# Altium integrated library ON Semi Signal Management Display Controllers.IntLib: 5 symbols
Pins are listed as number, name and electrical type; pins without a type are passive.

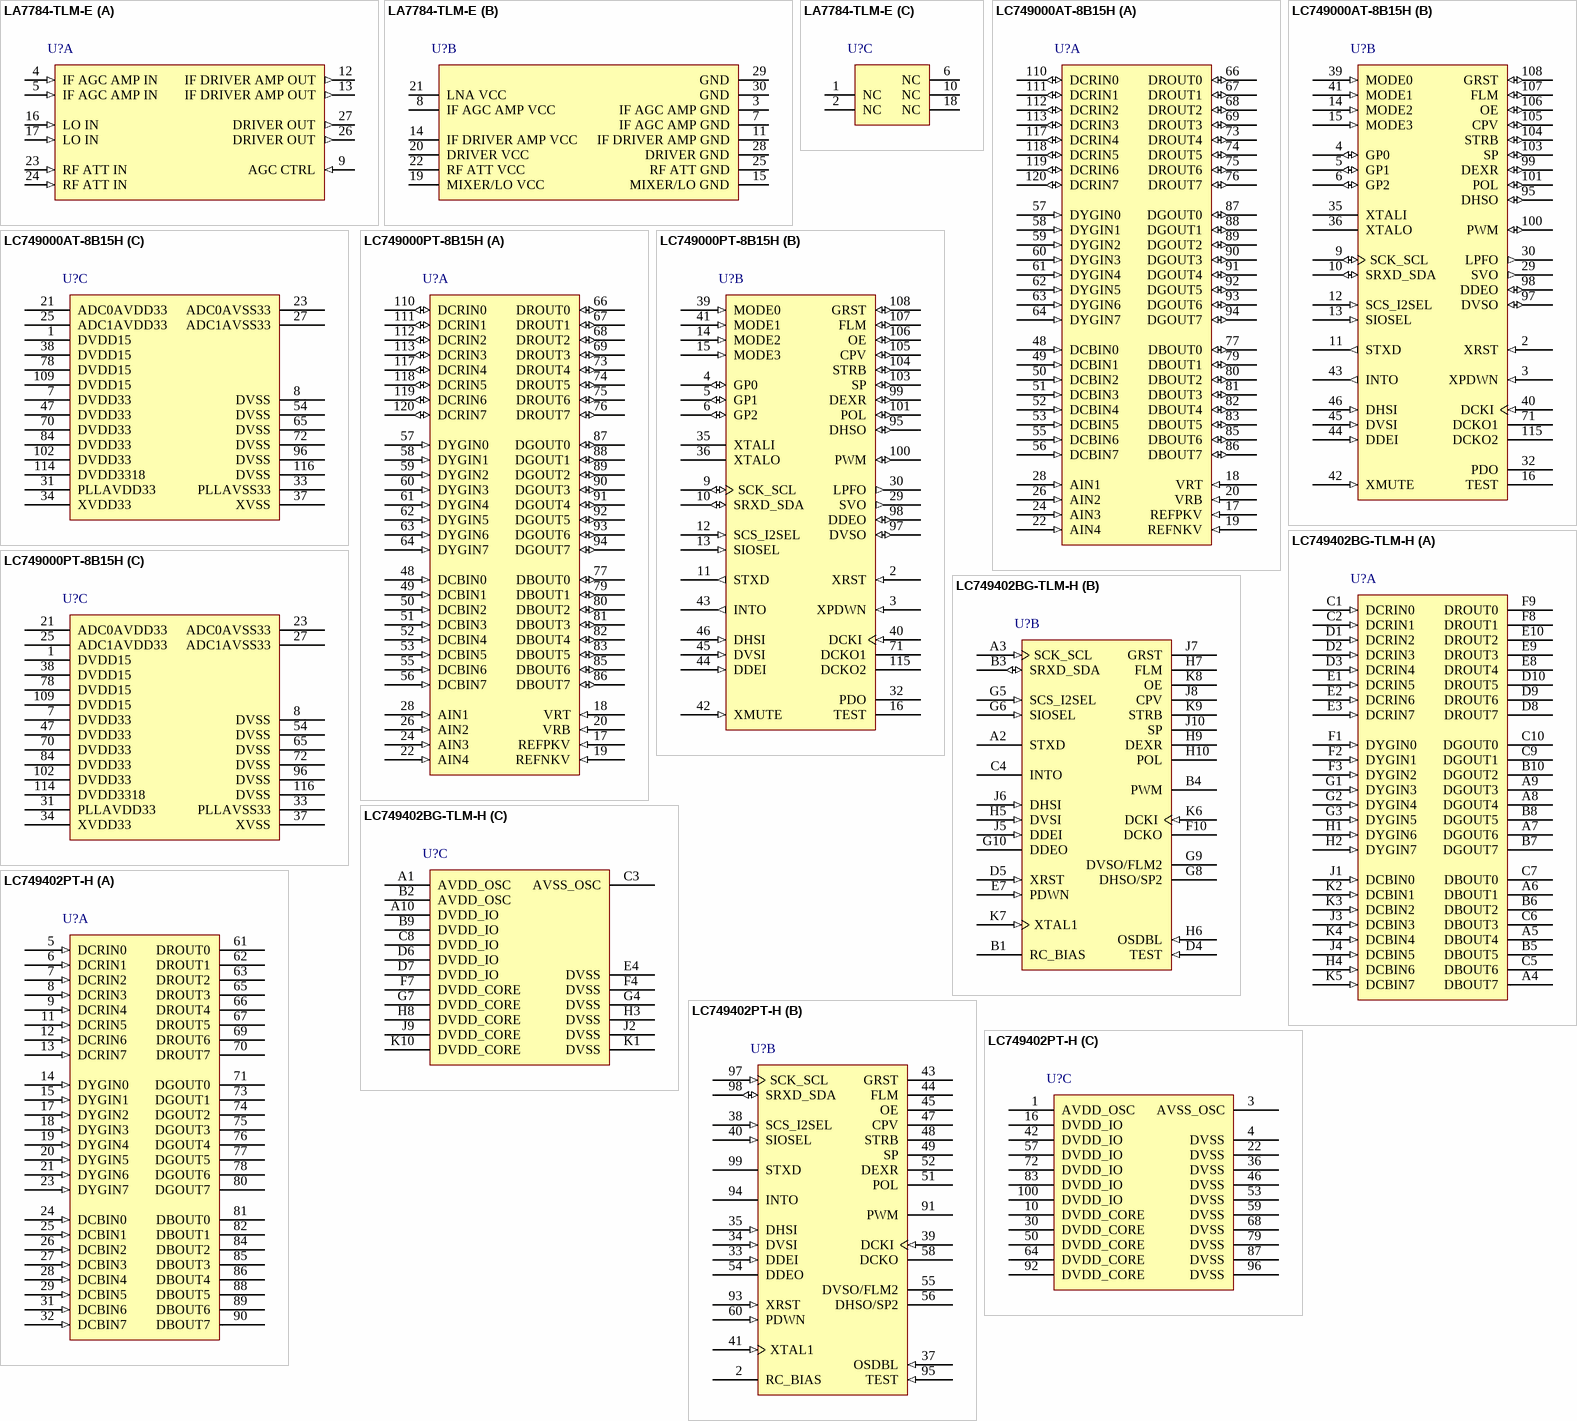
[diagram p0: symbols LA7784-TLM-E to LC749402PT-H]

## LA7784-TLM-E
designator U?
Downconverter IC for Digital CATV, 4.5 to 5.5 V, -20 to 70 degC, 28-Pin HSOP, Pb-Free, Tape and Reel; Manufacturer: On Semiconductor; PartNumber: LA7784-TLM-E; Supply Voltage Max (V): 5.5; Supply Voltage Min (V): 4.5; DatasheetVersion: Rev. 0; PackageReference: HSOP-28; PackageDescription: 28-Pin Small Outline Package, Body 15 x 5.6 mm, Pitch 0.8 mm; Supplier 1: Mouser; Supplier Part Number 1: 863-LA7784-TLM-E; Packing: Tape and Reel; RoHS: TRUE; Mounting Technology: Surface Mount; ComponentLink1Description: Manufacturer URL; ComponentLink1URL: http://www.onsemi.com/; ComponentLink2Description: Datasheet; ComponentLink2URL: http://www.onsemi.com/pub/Collateral/ENN8386-D.PDF; ComponentLink3Description: Package Specification; ComponentLink3URL: http://www.onsemi.com/pub/Collateral/ENN8386-D.PDF
footprint ONSC-HSOP-28_N (SOP, 28-Leads, Body 15x5.6mm, Pitch 0.8mm, IPC Medium Density)
footprint ONSC-HSOP-28_L (SOP, 28-Leads, Body 15x5.6mm, Pitch 0.8mm, IPC High Density)
footprint ONSC-HSOP-28_M (SOP, 28-Leads, Body 15x5.6mm, Pitch 0.8mm, IPC Low Density)
part A pins: 4 IF AGC AMP IN (in) "AGC Amp Input", 5 IF AGC AMP IN (in) "AGC Amp Input", 9 AGC CTRL (in) "AGC Control", 12 IF DRIVER AMP OUT (out) "Post Amp Output", 13 IF DRIVER AMP OUT (out) "Post Amp Output", 16 LO IN (in) "LO Input", 17 LO IN (in) "LO Input", 23 RF ATT IN (in) "LNA Input", 24 RF ATT IN (in) "LNA Input", 26 DRIVER OUT (out) "Driver Output", 27 DRIVER OUT (out) "Driver Output"
part B pins: 3 IF AGC AMP GND (power) "AGC Amp GND", 7 IF AGC AMP GND (power) "AGC Amp GND", 8 IF AGC AMP VCC (power) "AGC Amp VCC", 11 IF DRIVER AMP GND (power) "Post Amp GND", 14 IF DRIVER AMP VCC (power) "Post Amp VCC", 15 MIXER/LO GND (power) "Mixer/LO GND", 19 MIXER/LO VCC (power) "Mixer/LO VCC", 20 DRIVER VCC (power) "Driver VCC", 21 LNA VCC (power), 22 RF ATT VCC (power) "LNA VCC", 25 RF ATT GND (power) "LNA GND", 28 DRIVER GND (power) "Driver GND", 29 GND (power), 30 GND (power)
part C pins: 1 NC "No connection", 2 NC "No connection", 6 NC "No connection", 10 NC "No connection", 18 NC "No connection"

## LC749000AT-8B15H
designator U?
Silicon Gate LCD Processor LSI for Small Size Display, -40 to 85 degC, 120-Pin TQFP, Pb-Free, Tray; Manufacturer: On Semiconductor; PartNumber: LC749000AT-8B15H; Character Format: 16 x 20; Control Input: I2C, SPI; Number of Characters Supported (Internal): 512; DatasheetVersion: Rev. 0; PackageVersion: Rev. A, 11/2013; PackageReference: TQFP-120-932AZ; PackageDescription: 120-Pin Quad Flat Package, Body 14 x 14 mm, Pitch 0.4 mm; Supplier 1: Newark; Supplier Part Number 1: 56W6698; Supplier 2: Mouser; Supplier Part Number 2: 863-LC749000AT-8B15H; Packing: Tray; RoHS: TRUE; Mounting Technology: Surface Mount; ComponentLink1Description: Manufacturer URL; ComponentLink1URL: http://www.onsemi.com/; ComponentLink2Description: Datasheet; ComponentLink2URL: http://www.onsemi.com/pub_link/Collateral/ENA2000-D.PDF; ComponentLink3Description: Package Specification; ComponentLink3URL: http://www.onsemi.com/pub_link/Collateral/932AZ.PDF
footprint ONSC-TQFP-120-932AZ_V (QFP, 120-Leads, Body 14.1x14.1mm, Pitch 0.4mm)
part A pins: 17 REFPKV (in) "Top reference level Buffer-AMP input for ADC", 18 VRT (in) "Top reference level for ADC", 19 REFNKV (in) "Bottom reference level Buffer-AMP input for ADC", 20 VRB (in) "Bottom reference level for ADC", 22 AIN4 (in) "CVBS input 4", 24 AIN3 (in) "CVBS input 3", 26 AIN2 (in) "CVBS input 2", 28 AIN1 (in) "CVBS input 1", 48 DCBIN0 (in) "Digital video input/OSD input (pull down if not used)", 49 DCBIN1 (in) "Digital video input/OSD input (pull down if not used)", 50 DCBIN2 (in) "Digital video input/OSD input (pull down if not used)", 51 DCBIN3 (in) "Digital video input/OSD input (pull down if not used)", 52 DCBIN4 (in) "Digital video input/OSD input (pull down if not used)", 53 DCBIN5 (in) "Digital video input/OSD input (pull down if not used)", 55 DCBIN6 (in) "Digital video input/OSD input (pull down if not used)", 56 DCBIN7 (in) "Digital video input/OSD input (pull down if not used)", 57 DYGIN0 (in) "Digital video input/OSD input (pull down if not used)", 58 DYGIN1 (in) "Digital video input/OSD input (pull down if not used)", 59 DYGIN2 (in) "Digital video input/OSD input (pull down if not used)", 60 DYGIN3 (in) "Digital video input/OSD input (pull down if not used)", 61 DYGIN4 (in) "Digital video input/OSD input (pull down if not used)", 62 DYGIN5 (in) "Digital video input/OSD input (pull down if not used))", 63 DYGIN6 (in) "Digital video input/OSD input (pull down if not used)", 64 DYGIN7 (in) "Digital video input/OSD input (pull down if not used)", 66 DROUT0 (io) "Panel R output (LSB) (input port in test mode)", 67 DROUT1 (io) "Panel R output (input port in test mode)", 68 DROUT2 (io) "Panel R output (input port in test mode)", 69 DROUT3 (io) "Panel R output (input port in test mode)", 73 DROUT4 (io) "Panel R output (input port in test mode)", 74 DROUT5 (io) "Panel R output (input port in test mode)", 75 DROUT6 (io) "Panel R output (input port in test mode)", 76 DROUT7 (io) "Panel R output (MSB) (input port in test mode)", 77 DBOUT0 (io) "Panel B output (LSB) (input port in test mode)", 79 DBOUT1 (io) "Panel B output (input port in test mode)", 80 DBOUT2 (io) "Panel B output (input port in test mode)", 81 DBOUT3 (io) "Panel B output (input port in test mode)", 82 DBOUT4 (io) "Panel B output (input port in test mode)", 83 DBOUT5 (io) "Panel B output (input port in test mode)", 85 DBOUT6 (io) "Panel B output (input port in test mode)", 86 DBOUT7 (io) "Panel B output (MSB) (input port in test mode)", 87 DGOUT0 (io) "Panel G output (LSB) (input port in test mode)", 88 DGOUT1 (io) "Panel G output (input port in test mode)", 89 DGOUT2 (io) "Panel G output (input port in test mode)", 90 DGOUT3 (io) "Panel G output (input port in test mode)", 91 DGOUT4 (io) "Panel G output (input port in test mode)", 92 DGOUT5 (io) "Panel G output (input port in test mode)", 93 DGOUT6 (io) "Panel G output (input port in test mode)", 94 DGOUT7 (io) "Panel G output (MSB) (input port in test mode)", 110 DCRIN0 (io) "Input: Digital video input/OSD input (pull down if not used), Output: Video decoder output 2[0] (BT.656)", 111 DCRIN1 (io) "Input: Digital video input/OSD input (pull down if not used), Output: Video decoder output 2[1] (BT.656)", 112 DCRIN2 (io) "Input: Digital video input/OSD input (pull down if not used), Output: Video decoder output 2[2] (BT.656)", 113 DCRIN3 (io) "Input: Digital video input/OSD input (pull down if not used), Output: Video decoder output 2[3] (BT.656)", 117 DCRIN4 (io) "Input: Digital video input/OSD input (pull down if not used), Output: Video decoder output 2[4] (BT.656)", 118 DCRIN5 (io) "Input: Digital video input/OSD input (pull down if not used), Output: Video decoder output 2[5] (BT.656)", 119 DCRIN6 (io) "Input: Digital video input/OSD input (pull down if not used), Output: Video decoder output 2[6] (BT.656)", 120 DCRIN7 (io) "Input: Digital video input/OSD input (pull down if not used), Output: Video decoder output 2[7] (BT.656)"
part B pins: 2 XRST (in) "Reset pin (active at a low voltage level)", 3 XPDWN (in) "Fixed at a high voltage level", 4 GP0 (io) "Input: Digital input/OSD enable (pull down if not used), Output: Global port/Video decoder Vsync", 5 GP1 (io) "Input: Digital input/OSD halftone (pull down if not used), Output: Global Port/Video DecoderHsync", 6 GP2 (io) "Global port output", 9 SCK_SCL (io) "I2C: I2C Clock inout, SPI: Clock input", 10 SRXD_SDA (io) "I2C: data inout, SPI: data input", 11 STXD (out) "SPI: data output", 12 SCS_I2SEL (in) "I2C: Select I2C slave address, SPI: Chip select", 13 SIOSEL (in) "Select CPU I/F, ”L”: I2C, ”H”: SPI", 14 MODE2 (in) "Operation mode control", 15 MODE3 (in) "Operation mode control", 16 TEST "For production test (Fixed at a low voltage level)", 29 SVO (out) "AFE output", 30 LPFO (out) "External AGC control level", 32 PDO "Test port for PLL (Open)", 35 XTALI "27MHz X’tal input", 36 XTALO "27MHz X’tal output", 39 MODE0 (in) "Operation mode control", 40 DCKI (in) "Digital video clock", 41 MODE1 (in) "Operation mode control", 42 XMUTE (in) "Mute control (active at a low voltage level)", 43 INTO (out) "Interrupt output", 44 DDEI (in) "Digital video enable/OSD enable", 45 DVSI (in) "Digital video Vsync/OSD half tone", 46 DHSI (in) "Digital video Hsync", 71 DCKO1 (hiz) "Panel clock output", 95 DHSO (io) "Panel Hsync/Start pulse for source driver/Video decoder Vsync output (input port in test mode)", 97 DVSO (io) "Panel Vsync/Start pulse for gate driver/Video decoder Vsync output (input port in test mode)", 98 DDEO (io) "Panel enable output (input port in test mode)", 99 DEXR (io) "Invert control signal for DTR/Video decorer output 1[7](BT.656) (input port in test mode)", 100 PWM (io) "Pulse width modulation (input port in test mode)", 101 POL (io) "Polarity control for source driver/Video decoder output 1[6] (BT.656) (input port in test mode)", 103 SP (io) "Start pulse for source driver/Video decoder output 1[5] (BT.656) (input port in test mode)", 104 STRB (io) "Data stroboscope for source driver/Video decoder output 1[4] (BT.656) (input port in test mode)", 105 CPV (io) "Clock for gate driver/Video decoder output 1[3] (BT.656) (input port in test mode)", 106 OE (io) "Output enable for gate driver/Video decoder output 1[2] (BT.656) (input port in test mode)", 107 FLM (io) "Start pulse for gate driver/Video decoder output 1[1] (BT.656) (input port in test mode)", 108 GRST (io) "Reset for gate driver/Video decoder output1[0] (BT.656) (input port in test mode)", 115 DCKO2 (hiz) "Video decoder clock output"
part C pins: 1 DVDD15 (power) "Power supply for core (1.5V)", 7 DVDD33 (power) "Power supply for IO (3.3V)", 8 DVSS (power) "GND for digital", 21 ADC0AVDD33 (power) "Power supply for ADC (3.3V)", 23 ADC0AVSS33 (power) "GND for ADC", 25 ADC1AVDD33 (power) "Power supply for ADC (3.3V)", 27 ADC1AVSS33 (power) "GND for ADC", 31 PLLAVDD33 (power) "Power supply for PLL (3.3V)", 33 PLLAVSS33 (power) "GND for PLL", 34 XVDD33 (power) "Power supply for 27MHz X’tal (3.3V)", 37 XVSS (power) "GND for 27MHz X’tal", 38 DVDD15 (power) "Power supply for core (1.5V)", 47 DVDD33 (power) "Power supply for IO (3.3V)", 54 DVSS (power) "GND for digital", 65 DVSS (power) "GND for digital", 70 DVDD33 (power) "Power supply for IO (3.3V)", 72 DVSS (power) "GND for digital", 78 DVDD15 (power) "Power supply for core (1.5V)", 84 DVDD33 (power) "Power supply for IO (3.3V)", 96 DVSS (power) "GND for digital", 102 DVDD33 (power) "Power supply for IO (3.3V)", 109 DVDD15 (power) "Power supply for core (1.5V)", 114 DVDD3318 (power) "Power supply for IO (3.3V/1.8V)", 116 DVSS (power) "GND for digital"

## LC749000PT-8B15H
designator U?
Silicon Gate LCD Processor LSI for Small Size Display, -40 to 85 degC, 120-Pin TQFP, Pb-Free, Tray; Manufacturer: On Semiconductor; PartNumber: LC749000PT-8B15H; Character Format: 16 x 20; Control Input: I2C, SPI; Number of Characters Supported (Internal): 512; DatasheetVersion: Rev. 0; PackageVersion: Rev. A, 11/2013; PackageReference: TQFP-120-932AZ; PackageDescription: 120-Pin Quad Flat Package, Body 14 x 14 mm, Pitch 0.4 mm; Supplier 1: Mouser; Supplier Part Number 1: 863-LC749000PT-8B15H; Packing: Tray; RoHS: TRUE; Mounting Technology: Surface Mount; ComponentLink1Description: Manufacturer URL; ComponentLink1URL: http://www.onsemi.com/; ComponentLink2Description: Datasheet; ComponentLink2URL: http://www.onsemi.com/pub_link/Collateral/ENA2000-D.PDF; ComponentLink3Description: Package Specification; ComponentLink3URL: http://www.onsemi.com/pub_link/Collateral/932AZ.PDF
footprint ONSC-TQFP-120-932AZ_V (QFP, 120-Leads, Body 14.1x14.1mm, Pitch 0.4mm)
part A pins: 17 REFPKV (in) "Top reference level Buffer-AMP input for ADC", 18 VRT (in) "Top reference level for ADC", 19 REFNKV (in) "Bottom reference level Buffer-AMP input for ADC", 20 VRB (in) "Bottom reference level for ADC", 22 AIN4 (in) "CVBS input 4", 24 AIN3 (in) "CVBS input 3", 26 AIN2 (in) "CVBS input 2", 28 AIN1 (in) "CVBS input 1", 48 DCBIN0 (in) "Digital video input/OSD input (pull down if not used)", 49 DCBIN1 (in) "Digital video input/OSD input (pull down if not used)", 50 DCBIN2 (in) "Digital video input/OSD input (pull down if not used)", 51 DCBIN3 (in) "Digital video input/OSD input (pull down if not used)", 52 DCBIN4 (in) "Digital video input/OSD input (pull down if not used)", 53 DCBIN5 (in) "Digital video input/OSD input (pull down if not used)", 55 DCBIN6 (in) "Digital video input/OSD input (pull down if not used)", 56 DCBIN7 (in) "Digital video input/OSD input (pull down if not used)", 57 DYGIN0 (in) "Digital video input/OSD input (pull down if not used)", 58 DYGIN1 (in) "Digital video input/OSD input (pull down if not used)", 59 DYGIN2 (in) "Digital video input/OSD input (pull down if not used)", 60 DYGIN3 (in) "Digital video input/OSD input (pull down if not used)", 61 DYGIN4 (in) "Digital video input/OSD input (pull down if not used)", 62 DYGIN5 (in) "Digital video input/OSD input (pull down if not used))", 63 DYGIN6 (in) "Digital video input/OSD input (pull down if not used)", 64 DYGIN7 (in) "Digital video input/OSD input (pull down if not used)", 66 DROUT0 (io) "Panel R output (LSB) (input port in test mode)", 67 DROUT1 (io) "Panel R output (input port in test mode)", 68 DROUT2 (io) "Panel R output (input port in test mode)", 69 DROUT3 (io) "Panel R output (input port in test mode)", 73 DROUT4 (io) "Panel R output (input port in test mode)", 74 DROUT5 (io) "Panel R output (input port in test mode)", 75 DROUT6 (io) "Panel R output (input port in test mode)", 76 DROUT7 (io) "Panel R output (MSB) (input port in test mode)", 77 DBOUT0 (io) "Panel B output (LSB) (input port in test mode)", 79 DBOUT1 (io) "Panel B output (input port in test mode)", 80 DBOUT2 (io) "Panel B output (input port in test mode)", 81 DBOUT3 (io) "Panel B output (input port in test mode)", 82 DBOUT4 (io) "Panel B output (input port in test mode)", 83 DBOUT5 (io) "Panel B output (input port in test mode)", 85 DBOUT6 (io) "Panel B output (input port in test mode)", 86 DBOUT7 (io) "Panel B output (MSB) (input port in test mode)", 87 DGOUT0 (io) "Panel G output (LSB) (input port in test mode)", 88 DGOUT1 (io) "Panel G output (input port in test mode)", 89 DGOUT2 (io) "Panel G output (input port in test mode)", 90 DGOUT3 (io) "Panel G output (input port in test mode)", 91 DGOUT4 (io) "Panel G output (input port in test mode)", 92 DGOUT5 (io) "Panel G output (input port in test mode)", 93 DGOUT6 (io) "Panel G output (input port in test mode)", 94 DGOUT7 (io) "Panel G output (MSB) (input port in test mode)", 110 DCRIN0 (io) "Input: Digital video input/OSD input (pull down if not used), Output: Video decoder output 2[0] (BT.656)", 111 DCRIN1 (io) "Input: Digital video input/OSD input (pull down if not used), Output: Video decoder output 2[1] (BT.656)", 112 DCRIN2 (io) "Input: Digital video input/OSD input (pull down if not used), Output: Video decoder output 2[2] (BT.656)", 113 DCRIN3 (io) "Input: Digital video input/OSD input (pull down if not used), Output: Video decoder output 2[3] (BT.656)", 117 DCRIN4 (io) "Input: Digital video input/OSD input (pull down if not used), Output: Video decoder output 2[4] (BT.656)", 118 DCRIN5 (io) "Input: Digital video input/OSD input (pull down if not used), Output: Video decoder output 2[5] (BT.656)", 119 DCRIN6 (io) "Input: Digital video input/OSD input (pull down if not used), Output: Video decoder output 2[6] (BT.656)", 120 DCRIN7 (io) "Input: Digital video input/OSD input (pull down if not used), Output: Video decoder output 2[7] (BT.656)"
part B pins: 2 XRST (in) "Reset pin (active at a low voltage level)", 3 XPDWN (in) "Fixed at a high voltage level", 4 GP0 (io) "Input: Digital input/OSD enable (pull down if not used), Output: Global port/Video decoder Vsync", 5 GP1 (io) "Input: Digital input/OSD halftone (pull down if not used), Output: Global Port/Video DecoderHsync", 6 GP2 (io) "Global port output", 9 SCK_SCL (io) "I2C: I2C Clock inout, SPI: Clock input", 10 SRXD_SDA (io) "I2C: data inout, SPI: data input", 11 STXD (out) "SPI: data output", 12 SCS_I2SEL (in) "I2C: Select I2C slave address, SPI: Chip select", 13 SIOSEL (in) "Select CPU I/F, ”L”: I2C, ”H”: SPI", 14 MODE2 (in) "Operation mode control", 15 MODE3 (in) "Operation mode control", 16 TEST "For production test (Fixed at a low voltage level)", 29 SVO (out) "AFE output", 30 LPFO (out) "External AGC control level", 32 PDO "Test port for PLL (Open)", 35 XTALI "27MHz X’tal input", 36 XTALO "27MHz X’tal output", 39 MODE0 (in) "Operation mode control", 40 DCKI (in) "Digital video clock", 41 MODE1 (in) "Operation mode control", 42 XMUTE (in) "Mute control (active at a low voltage level)", 43 INTO (out) "Interrupt output", 44 DDEI (in) "Digital video enable/OSD enable", 45 DVSI (in) "Digital video Vsync/OSD half tone", 46 DHSI (in) "Digital video Hsync", 71 DCKO1 (hiz) "Panel clock output", 95 DHSO (io) "Panel Hsync/Start pulse for source driver/Video decoder Vsync output (input port in test mode)", 97 DVSO (io) "Panel Vsync/Start pulse for gate driver/Video decoder Vsync output (input port in test mode)", 98 DDEO (io) "Panel enable output (input port in test mode)", 99 DEXR (io) "Invert control signal for DTR/Video decorer output 1[7](BT.656) (input port in test mode)", 100 PWM (io) "Pulse width modulation (input port in test mode)", 101 POL (io) "Polarity control for source driver/Video decoder output 1[6] (BT.656) (input port in test mode)", 103 SP (io) "Start pulse for source driver/Video decoder output 1[5] (BT.656) (input port in test mode)", 104 STRB (io) "Data stroboscope for source driver/Video decoder output 1[4] (BT.656) (input port in test mode)", 105 CPV (io) "Clock for gate driver/Video decoder output 1[3] (BT.656) (input port in test mode)", 106 OE (io) "Output enable for gate driver/Video decoder output 1[2] (BT.656) (input port in test mode)", 107 FLM (io) "Start pulse for gate driver/Video decoder output 1[1] (BT.656) (input port in test mode)", 108 GRST (io) "Reset for gate driver/Video decoder output1[0] (BT.656) (input port in test mode)", 115 DCKO2 (hiz) "Video decoder clock output"
part C pins: 1 DVDD15 (power) "Power supply for core (1.5V)", 7 DVDD33 (power) "Power supply for IO (3.3V)", 8 DVSS (power) "GND for digital", 21 ADC0AVDD33 (power) "Power supply for ADC (3.3V)", 23 ADC0AVSS33 (power) "GND for ADC", 25 ADC1AVDD33 (power) "Power supply for ADC (3.3V)", 27 ADC1AVSS33 (power) "GND for ADC", 31 PLLAVDD33 (power) "Power supply for PLL (3.3V)", 33 PLLAVSS33 (power) "GND for PLL", 34 XVDD33 (power) "Power supply for 27MHz X’tal (3.3V)", 37 XVSS (power) "GND for 27MHz X’tal", 38 DVDD15 (power) "Power supply for core (1.5V)", 47 DVDD33 (power) "Power supply for IO (3.3V)", 54 DVSS (power) "GND for digital", 65 DVSS (power) "GND for digital", 70 DVDD33 (power) "Power supply for IO (3.3V)", 72 DVSS (power) "GND for digital", 78 DVDD15 (power) "Power supply for core (1.5V)", 84 DVDD33 (power) "Power supply for IO (3.3V)", 96 DVSS (power) "GND for digital", 102 DVDD33 (power) "Power supply for IO (3.3V)", 109 DVDD15 (power) "Power supply for core (1.5V)", 114 DVDD3318 (power) "Power supply for IO (3.3V/1.8V)", 116 DVSS (power) "GND for digital"

## LC749402BG-TLM-H
designator U?
Silicon Gate LCD Picture Quality Improvement IC, -40 to 85 degC, 96-Pin LFBGA, Pb-Free, Tape and Reel; Manufacturer: On Semiconductor; PartNumber: LC749402BG-TLM-H; Control Input: I2C; DatasheetVersion: Rev. 0; PackageVersion: Rev. O, 05/2012; PackageReference: LFBGA-96-566EL; PackageDescription: 96-Ball Low Fine-Line Ball Grid Array, Body 6 x 6 mm, Pitch 0.5 mm; Supplier 1: Mouser; Supplier Part Number 1: 863-LC749402BG-TLM-H; Packing: Tape and Reel; RoHS: TRUE; Mounting Technology: Surface Mount; ComponentLink1Description: Manufacturer URL; ComponentLink1URL: http://www.onsemi.com/; ComponentLink2Description: Datasheet; ComponentLink2URL: http://www.onsemi.com/pub_link/Collateral/LC749402BG-D.PDF; ComponentLink3Description: Package Specification; ComponentLink3URL: http://www.onsemi.com/pub_link/Collateral/566EL.PDF
footprint ONSC-LFBGA-96-566EL (BGA, 96-Balls, Body 6x6mm, Pitch 0.5mm)
part A pins: A4 DBOUT7 (hiz) "B/Cb/C video (MSB)", A5 DBOUT4 (hiz) "B/Cb/C video", A6 DBOUT1 (hiz) "B/Cb/C video", A7 DGOUT6 (hiz) "G/Y video", A8 DGOUT4 (hiz) "G/Y video", A9 DGOUT3 (hiz) "G/Y video", B5 DBOUT5 (hiz) "B/Cb/C video", B6 DBOUT2 (hiz) "B/Cb/C video (6-bit output mode, LSB)", B7 DGOUT7 (hiz) "G/Y video (MSB)", B8 DGOUT5 (hiz) "G/Y video", B10 DGOUT2 (hiz) "G/Y video (6-bit output mode, LSB)", C1 DCRIN0 (in) "R/Cr video. Connect this pin to GND when not to be used.", C2 DCRIN1 (in) "R/Cr video. Connect this pin to GND when not to be used.", C5 DBOUT6 (hiz) "B/Cb/C video", C6 DBOUT3 (hiz) "B/Cb/C video", C7 DBOUT0 (hiz) "B/Cb/C video (8-bit output mode, LSB)", C9 DGOUT1 (hiz) "G/Y video", C10 DGOUT0 (hiz) "G/Y video (8-bit output mode, LSB)", D1 DCRIN2 (in) "R/Cr video. Connect this pin to GND when not to be used.", D2 DCRIN3 (in) "R/Cr video. Connect this pin to GND when not to be used.", D3 DCRIN4 (in) "R/Cr video. Connect this pin to GND when not to be used.", D8 DROUT7 (hiz) "R/Cr video (MSB)", D9 DROUT6 (hiz) "R/Cr video", D10 DROUT5 (hiz) "R/Cr video", E1 DCRIN5 (in) "R/Cr video. Connect this pin to GND when not to be used.", E2 DCRIN6 (in) "R/Cr video. Connect this pin to GND when not to be used.", E3 DCRIN7 (in) "R/Cr video (MSB). Connect this pin to GND when not to be used.", E8 DROUT4 (hiz) "R/Cr video", E9 DROUT3 (hiz) "R/Cr video", E10 DROUT2 (hiz) "R/Cr video (6-bit output mode, LSB)", F1 DYGIN0 (in) "G/Y/656 video (LSB). Connect this pin to GND when not to be used.", F2 DYGIN1 (in) "G/Y/656 video. Connect this pin to GND when not to be used.", F3 DYGIN2 (in) "G/Y/656 video. Connect this pin to GND when not to be used.", F8 DROUT1 (hiz) "R/Cr video", F9 DROUT0 (hiz) "R/Cr video (8-bit output mode, LSB)", G1 DYGIN3 (in) "G/Y/656 video. Connect this pin to GND when not to be used.", G2 DYGIN4 (in) "G/Y/656 video. Connect this pin to GND when not to be used.", G3 DYGIN5 (in) "G/Y/656 video. Connect this pin to GND when not to be used.", H1 DYGIN6 (in) "G/Y/656 video. Connect this pin to GND when not to be used.", H2 DYGIN7 (in) "G/Y/656 video. Connect this pin to GND when not to be used.", H4 DCBIN6 (in) "B/Cb/C video. Connect this pin to GND when not to be used.", J1 DCBIN0 (in) "B/Cb/C video (LSB). Connect this pin to GND when not to be used.", J3 DCBIN3 (in) "B/Cb/C video. Connect this pin to GND when not to be used.", J4 DCBIN5 (in) "B/Cb/C video. Connect this pin to GND when not to be used.", K2 DCBIN1 (in) "B/Cb/C video. Connect this pin to GND when not to be used.", K3 DCBIN2 (in) "B/Cb/C video. Connect this pin to GND when not to be used.", K4 DCBIN4 (in) "B/Cb/C video. Connect this pin to GND when not to be used.", K5 DCBIN7 (in) "B/Cb/C video. Connect this pin to GND when not to be used."
part B pins: A2 STXD (hiz) "SIO data", A3 SCK_SCL (in) "Bus clock (common to SIO and I2C)", B1 RC_BIAS "Bias resistor connection (Connect this pin to GND with a 20kohm)", B3 SRXD_SDA (io) "SIO data input/I2C data I/O", B4 PWM (hiz) "Pulse width modulation waveform", C4 INTO (hiz) "Interrupt", D4 TEST (in) "Test (Normally, connect this pin to GND)", D5 XRST (in) "System reset ("L" reset)", E7 PDWN (in) ""H" power down. Connect this pin to GND when not to be used.", F10 DCKO (hiz) "Video clock", G5 SCS_I2SEL (in) "SIO chip enable/I2C slave address switching", G6 SIOSEL (in) ""L": I2C slave, "H": 4-wire SIO", G8 DHSO/SP2 (hiz) "Horizontal synchronizing signal/start pulse signal for source driver", G9 DVSO/FLM2 (hiz) "Vertical synchronizing signal/start pulse signal for gate driver", G10 DDEO (hiz) "Data enable signal", H5 DVSI (in) "Vertical synchronizing signal", H6 OSDBL (in) "Data enable signal for external OSD. Connect this pin to GND when not to be used.", H7 FLM (hiz) "Start pulse signal for gate driver", H9 DEXR (hiz) "Reversed video signal output for DTR. Low output when the DTR is OFF.", H10 POL (hiz) "Voltage polarity selection signal for source driver", J5 DDEI (in) "Data enable signal. Connect this pin to GND in the internal generation mode.", J6 DHSI (in) "Horizontal synchronizing signal", J7 GRST (hiz) "Reset signal for gate driver", J8 CPV (hiz) "Clock signal for gate driver", J10 SP (hiz) "Start pulse signal for source driver", K6 DCKI (in) "Video clock", K7 XTAL1 (in) "Panel protection, PWM generation clock. Connect this pin to GND when not to be used.", K8 OE (hiz) "Output enable signal for gate driver", K9 STRB (hiz) "Data strobe signal for source driver"
part C pins: A1 AVDD_OSC (power) "Connect this pin to B2 without fail.", A10 DVDD_IO (power) "Connect this pin to B9 without fail", B2 AVDD_OSC (power), B9 DVDD_IO (power), C3 AVSS_OSC (power), C8 DVDD_IO (power), D6 DVDD_IO (power), D7 DVDD_IO (power), E4 DVSS (power), F4 DVSS (power), F7 DVDD_CORE (power), G4 DVSS (power), G7 DVDD_CORE (power), H3 DVSS (power), H8 DVDD_CORE (power), J2 DVSS (power), J9 DVDD_CORE (power), K1 DVSS (power) "Connect this pin to J2 without fail.", K10 DVDD_CORE (power) "Connect this pin to J9 without fail."

## LC749402PT-H
designator U?
Silicon Gate LCD Picture Quality Improvement IC, -40 to 85 degC, 100-Pin TQFP, Pb-Free, Tray; Manufacturer: On Semiconductor; PartNumber: LC749402PT-H; Control Input: I2C; DatasheetVersion: Rev. 0; PackageVersion: Rev. A, 11/2013; PackageReference: TQFP-100-932AY; PackageDescription: 100-Pin Quad Flat Package, Body 14 x 14 mm, Pitch 0.5 mm; Supplier 1: Mouser; Supplier Part Number 1: 863-LC749402PT-H; Packing: Tray; RoHS: TRUE; Mounting Technology: Surface Mount; ComponentLink1Description: Manufacturer URL; ComponentLink1URL: http://www.onsemi.com/; ComponentLink2Description: Datasheet; ComponentLink2URL: http://www.onsemi.com/pub_link/Collateral/ENA1885-D.PDF; ComponentLink3Description: Package Specification; ComponentLink3URL: http://www.onsemi.com/pub_link/Collateral/932AY.PDF
footprint ONSC-TQFP-100-932AY_V (QFP, 100-Leads, Body 14.1x14.1mm, Pitch 0.5mm)
part A pins: 5 DCRIN0 (in) "R/Cr video input. (LSB Connect to GND when not used.)", 6 DCRIN1 (in) "R/Cr video input. (Connect to GND when not used.)", 7 DCRIN2 (in) "R/Cr video input (Connect to GND when not used.)", 8 DCRIN3 (in) "R/Cr video input (Connect to GND when not used.)", 9 DCRIN4 (in) "R/Cr video input (Connect to GND when not used.)", 11 DCRIN5 (in) "R/Cr video input (Connect to GND when not used.)", 12 DCRIN6 (in) "R/Cr video input (Connect to GND when not used.)", 13 DCRIN7 (in) "R/Cr video input (MSB Connect to GND when not used.)", 14 DYGIN0 (in) "G/Y/656 video input (LSB Connect to GND when not used.)", 15 DYGIN1 (in) "G/Y/656 video input (Connect to GND when not used.)", 17 DYGIN2 (in) "G/Y/656 video input (Connect to GND when not used.)", 18 DYGIN3 (in) "G/Y/656 video input (Connect to GND when not used.)", 19 DYGIN4 (in) "G/Y/656 video input (Connect to GND when not used.)", 20 DYGIN5 (in) "G/Y/656 video input (Connect to GND when not used.)", 21 DYGIN6 (in) "G/Y/656 video input (Connect to GND when not used.)", 23 DYGIN7 (in) "G/Y/656 video input (MSB Connect to GND when not used.)", 24 DCBIN0 (in) "B/Cb/C video (LSB Connect to GND when not used.)", 25 DCBIN1 (in) "B/Cb/C video input (Connect to GND when not used.)", 26 DCBIN2 (in) "B/Cb/C video input (Connect to GND when not used.)", 27 DCBIN3 (in) "B/Cb/C video input (Connect to GND when not used.)", 28 DCBIN4 (in) "B/Cb/C video input (Connect to GND when not used.)", 29 DCBIN5 (in) "B/Cb/C video input (Connect to GND when not used.)", 31 DCBIN6 (in) "B/Cb/C video input (Connect to GND when not used.)", 32 DCBIN7 (in) "B/Cb/C video input (MSB Connect to GND when not used.)", 61 DROUT0 (hiz) "R/Cr video output (LSB when 8-bit output is selected)", 62 DROUT1 (hiz) "R/Cr video output", 63 DROUT2 (hiz) "R/Cr video output (LSB when 6-bit output is selected)", 65 DROUT3 (hiz) "R/Cr video output", 66 DROUT4 (hiz) "R/Cr video output", 67 DROUT5 (hiz) "R/Cr video output", 69 DROUT6 (hiz) "R/Cr video output", 70 DROUT7 (hiz) "R/Cr video output (MSB)", 71 DGOUT0 (hiz) "G/Y video output (LSB when 8-bit output is selected)", 73 DGOUT1 (hiz) "G/Y video output", 74 DGOUT2 (hiz) "G/Y video output (LSB when 6-bit output is selected)", 75 DGOUT3 (hiz) "G/Y video output", 76 DGOUT4 (hiz) "G/Y video output", 77 DGOUT5 (hiz) "G/Y video output", 78 DGOUT6 (hiz) "G/Y video output", 80 DGOUT7 (hiz) "G/Y video output (MSB)", 81 DBOUT0 (hiz) "B/Cb/C video output (LSB when 8-bit output is selected)", 82 DBOUT1 (hiz) "B/Cb/C video output", 84 DBOUT2 (hiz) "B/Cb/C video output (LSB when 6-bit output is selected)", 85 DBOUT3 (hiz) "B/Cb/C video output", 86 DBOUT4 (hiz) "B/Cb/C video output", 88 DBOUT5 (hiz) "B/Cb/C video output", 89 DBOUT6 (hiz) "B/Cb/C video output", 90 DBOUT7 (hiz) "B/Cb/C video output (MSB)"
part B pins: 2 RC_BIAS "Bias resistor connection (Connect to ground through 20kohm resistor)", 33 DDEI (in) "Data enable signal. (Connect to GND when not used.)", 34 DVSI (in) "Vertical sync signal", 35 DHSI (in) "Horizontal sync signal.", 37 OSDBL (in) "Data enable signal for external OSD. Connect to GND when not used.)", 38 SCS_I2SEL (in) "SIO chip enable / I2C slave select", 39 DCKI (in) "Video clock.", 40 SIOSEL (in) "”L”: I2C slave, ”H”: 4 wire SIO", 41 XTAL1 (in) "Extarnal clock input for panel protection. (Connect to GND when not used.)", 43 GRST (hiz) "Gate driver reset signal.", 44 FLM (hiz) "Start pulse signal for gate driver", 45 OE (hiz) "Output enable signal for gate driver.", 47 CPV (hiz) "Gate driver clock signal.", 48 STRB (hiz) "Data strobe signal for source driver.", 49 SP (hiz) "Start pulse signal for sourse driver.", 51 POL (hiz) "Voltage polarity selection signal for the source driver.", 52 DEXR (hiz) "Reversed video signal output for DTR. Low output when the DTR is OFF.", 54 DDEO (hiz) "Data enable signal", 55 DVSO/FLM2 (hiz) "Vertical sync signal / Start pulse signal for gate driver", 56 DHSO/SP2 (hiz) "Horizontal sync signal / Start pulse signal for sourse driver", 58 DCKO (hiz) "Video clock output", 60 PDWN (in) "“H” power down control (Connect to GND when not used.)", 91 PWM (hiz) "Pulse width modulation waveform output", 93 XRST (in) "System reset (“L” reset)", 94 INTO (hiz) "Interrupt", 95 TEST (in) "Test setting (Connect to GND normally)", 97 SCK_SCL (in) "Bus clock (shared with SIO/I2C)", 98 SRXD_SDA (io) "SIO data input / I2C data input/output", 99 STXD (hiz) "SIO data"
part C pins: 1 AVDD_OSC (power), 3 AVSS_OSC (power), 4 DVSS (power), 10 DVDD_CORE (power), 16 DVDD_IO (power), 22 DVSS (power), 30 DVDD_CORE (power), 36 DVSS (power), 42 DVDD_IO (power), 46 DVSS (power), 50 DVDD_CORE (power), 53 DVSS (power), 57 DVDD_IO (power), 59 DVSS (power), 64 DVDD_CORE (power), 68 DVSS (power), 72 DVDD_IO (power), 79 DVSS (power), 83 DVDD_IO (power), 87 DVSS (power), 92 DVDD_CORE (power), 96 DVSS (power), 100 DVDD_IO (power)